# EAGLE library part TABLET_POGO_INTERFACE (library NVTS)
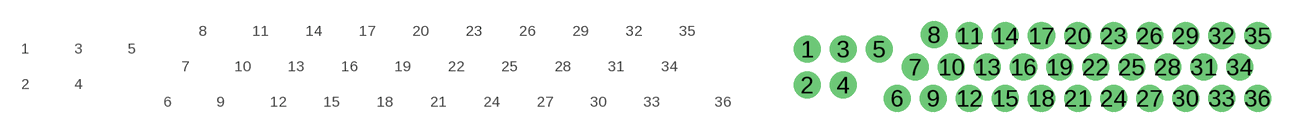
[diagram p0: symbol with the pads of TABLET_POGO_INTRFC; footprint TABLET_POGO_INTRFC]

Designator prefix -

## TABLET_POGO_INTERFACE  [TABLET_POGO_INTRFC]
1  1
2  2
3  3
4  4
5  5
6  6
7  7
8  8
9  9
10  10
11  11
12  12
13  13
14  14
15  15
16  16
17  17
18  18
19  19
20  20
21  21
22  22
23  23
24  24
25  25
26  26
27  27
28  28
29  29
30  30
31  31
32  32
33  33
34  34
35  35
36  36

## Footprint TABLET_POGO_INTRFC (pad centres in mm)
drill 1.219 pad 1.905: 1 1.27,1.27; 2 1.27,-1.27; 3 3.81,1.27; 4 3.81,-1.27; 5 6.35,1.27; 6 7.62,-2.21; 7 8.89,0; 8 10.211,2.286; 9 10.16,-2.21; 10 11.43,0; 11 12.7,2.21; 12 12.7,-2.21; 13 13.97,0; 14 15.24,2.21; 15 15.24,-2.21; 16 16.51,0; 17 17.78,2.21; 18 17.78,-2.21; 19 19.05,0; 20 20.32,2.21; 21 20.32,-2.21; 22 21.59,0; 23 22.86,2.21; 24 22.86,-2.21; 25 24.13,0; 26 25.4,2.21; 27 25.4,-2.21; 28 26.67,0; 29 27.94,2.21; 30 27.94,-2.21; 31 29.21,0; 32 30.48,2.21; 33 30.48,-2.21; 34 31.75,0; 35 33.02,2.21; 36 33.02,-2.21